# EAGLE library part CON7P1R (library ads4)
7-pin single-row connector
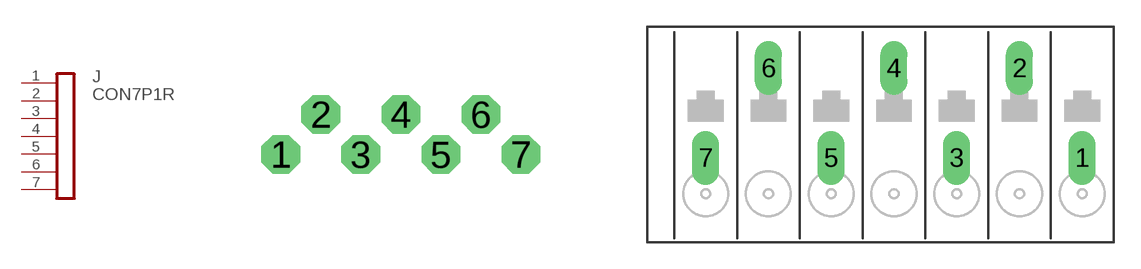
[diagram p65: symbol with the pads of RIBBON7-1MM; footprints RIBBON7-1MM, 1985247]

Designator prefix J

## CON7P1RRIB7-1MM  [RIBBON7-1MM]
1  1
2  2
3  3
4  4
5  5
6  6
7  7

## CON7P1R1985247  [1985247]
Pads as for RIBBON7-1MM

## CON7P1R282836-7  [TYCO282836-7]
Pads as for RIBBON7-1MM

## Footprint RIBBON7-1MM (pad centres in mm)
Ribbon Cable 7-Conductor 1mm 30AWG Staggered to separate pads
drill 0.457 octagon: 1 -3,0; 2 -2,1; 3 -1,0; 4 0,1; 5 1,0; 6 2,1; 7 3,0

## Footprint 1985247 (pad centres in mm)
Phoenix Contact 1985247 7-pin 3.5mm terminal block 13.1mm tall Verified package
drill 1 long: 1 12.25,-2.5; 2 8.75,2.5; 3 5.25,-2.5; 4 1.75,2.5; 5 -1.75,-2.5; 6 -5.25,2.5; 7 -8.75,-2.5

## Footprint TYCO282836-7 (pad centres in mm)
Tyco/Buchanan 282836-7 7-pin 5mm screw terminal
drill 1.1 long: 1 -15.04,0; 2 -10.04,0; 3 -5.04,0; 4 -0.04,0; 5 4.96,0; 6 9.96,0; 7 14.96,0